# Altium schematic symbol library 3550150RJT.SchLib: 1 symbol
Pins are listed as number, name and electrical type; pins without a type are passive.

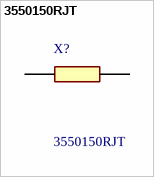
[diagram p0: symbol 3550150RJT]

## 3550150RJT
designator X?
Thick Film Resistors - SMD 3550 150R 5%; Manufacturer_Name: TE Connectivity; Geometry.Height: 1.2mm; Mouser Part Number: 279-3550150RJT; Mouser Price/Stock: https://www.mouser.co.uk/ProductDetail/TE-Connectivity-Holsworthy/3550150RJT?qs=gZXFycFWdAPP9JL3CHAw6w%3D%3D; Manufacturer_Part_Number: 3550150RJT; Datasheet Link: *
footprint RESC11050X120N
pins: 1, 2